# EAGLE library part LM22670 (library ICs)
LM22670/-Q1 42-V, 3-A SIMPLE SWITCHER®, Step-Down Voltage Regulator With Features
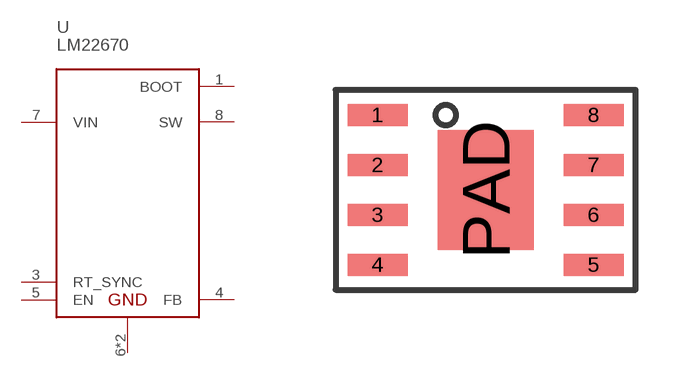
[diagram p215: symbol with the pads of SO8_PP; footprint SO8_PP]

Designator prefix U

## LM22670MRX-5.0/NOPB (DIGIKEY: 296-37361-1-ND; HEIGHT: 1.2; PRICE_PER: 3.33; VALUE: LM22670)  [SO8_PP]
1  BOOT
3  RT_SYNC
4  FB
5  EN
6  GND
7  VIN
8  SW
PAD  GND

## Footprint SO8_PP (pad centres in mm)
smd 1.5 x 0.55: 1 -2.7,1.875; 2 -2.7,0.625; 3 -2.7,-0.625; 4 -2.7,-1.875; 5 2.7,-1.875; 6 2.7,-0.625; 7 2.7,0.625; 8 2.7,1.875
smd 2.4 x 3: PAD 0,0